# Altium schematic symbol library LinhKienByTrun.SchLib: 123 symbols
Pins are listed as number, name and electrical type; pins without a type are passive.

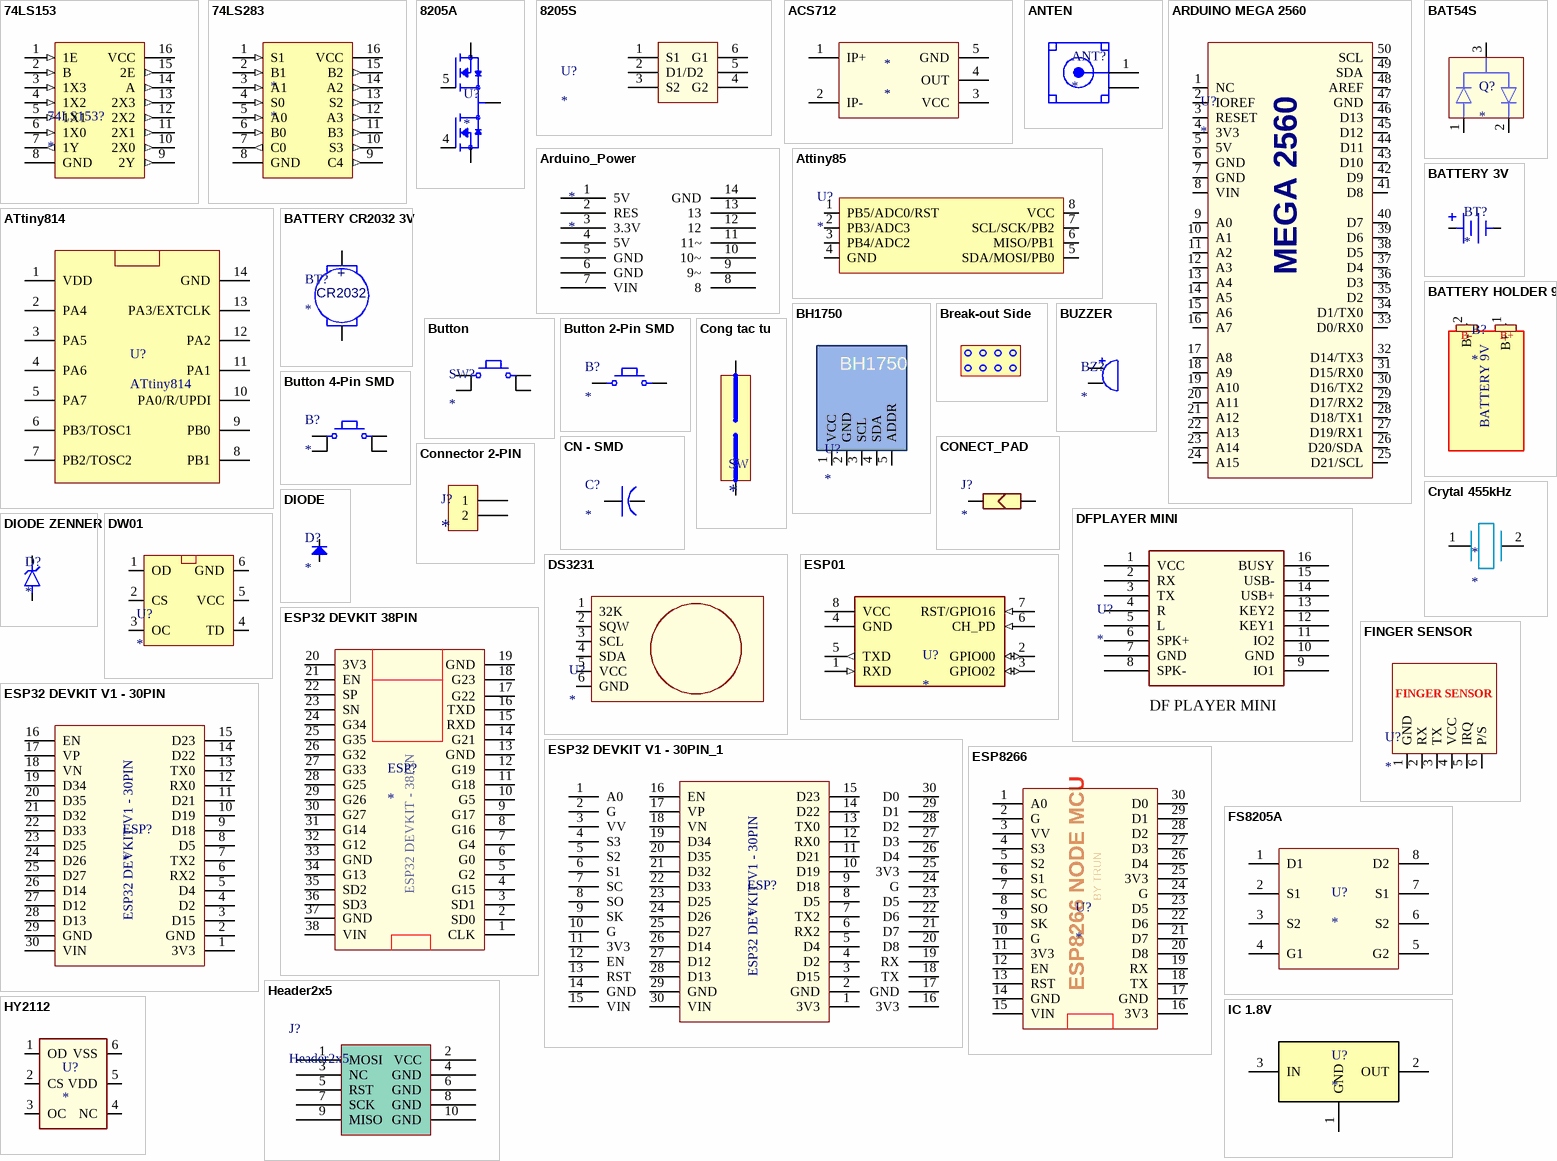
[diagram p0: symbols 74LS153 to IC 1.8V]

## 74LS153
designator 74LS153?
footprint DIP-16
pins: 1 1E (in), 2 B (in), 3 1X3 (in), 4 1X2 (in), 5 1X1 (in), 6 1X0 (in), 7 1Y (out), 8 GND (power), 9 2Y (out), 10 2X0 (out), 11 2X1 (out), 12 2X2 (out), 13 2X3 (out), 14 A (out), 15 2E (out), 16 VCC (power)

## 74LS283
designator *
footprint DIP-16
pins: 1 S1 (in), 2 B1 (in), 3 A1 (in), 4 S0 (in), 5 A0 (in), 6 B0 (in), 7 C0 (out), 8 GND (power), 9 C4 (out), 10 S3 (out), 11 B3 (out), 12 A3 (out), 13 S2 (out), 14 A2 (out), 15 B2 (out), 16 VCC (power)

## 8205A
designator U?
footprint 8205A
pins: 1 D12, 2 S1, 3 S1, 4 G1, 5 G2, 6 S2, 7 S2, 8 D12

## 8205S
designator U?
footprint SOP23-6
pins: 1 S1, 2 D1/D2, 3 S2, 4 G2, 5, 6 G1

## ACS712
designator *
footprint ACS712
pins: 1 IP+, 2 IP-, 3 VCC, 4 OUT, 5 GND

## ANTEN
designator ANT?
footprint ANTEN SMA FEMALE
footprint ANTEN
footprint ANTEN SMA FEMALE RIGHT
footprint ANTEN GSM
pins: 1 SIGNAL, 2 GND (power)

## ARDUINO MEGA 2560
designator U?
dauthanhtrung.kma@gmail.com
pins: 1 NC, 2 IOREF, 3 RESET, 4 3V3, 5 5V, 6 GND, 7 GND, 8 VIN, 9 A0, 10 A1, 11 A2, 12 A3, 13 A4, 14 A5, 15 A6, 16 A7, 17 A8, 18 A9, 19 A10, 20 A11, 21 A12, 22 A13, 23 A14, 24 A15, 25 D21/SCL, 26 D20/SDA, 27 D19/RX1, 28 D18/TX1, 29 D17/RX2, 30 D16/TX2, 31 D15/RX0, 32 D14/TX3, 33 D0/RX0, 34 D1/TX0, 35 D2, 36 D3, 37 D4, 38 D5, 39 D6, 40 D7, 41 D8, 42 D9, 43 D10, 44 D11, 45 D12, 46 D13, 47 GND, 48 AREF, 49 SDA, 50 SCL
text: MEGA 2560

## Arduino_Power
designator *
pins: 1 5V, 2 RES, 3 3.3V, 4 5V, 5 GND, 6 GND, 7 VIN, 8, 9 9~, 10 10~, 11 11~, 12, 13, 14 GND

## Attiny85
designator U?
footprint DIP8 SOCKET
footprint DIP8
pins: 1 PB5/ADC0/RST, 2 PB3/ADC3, 3 PB4/ADC2, 4 GND, 5 SDA/MOSI/PB0, 6 MISO/PB1, 7 SCL/SCK/PB2, 8 VCC

## ATtiny814
designator U?
footprint SOP14
pins: 1 VDD (power), 2 PA4, 3 PA5, 4 PA6, 5 PA7, 6 PB3/TOSC1, 7 PB2/TOSC2, 8 PB1, 9 PB0, 10 PA0/R/UPDI, 11 PA1, 12 PA2, 13 PA3/EXTCLK, 14 GND (power)

## BAT54S
designator Q?
BAT54S
footprint SOT23-3
pins: 1, 2, 3

## BATTERY 3V
designator BT?
footprint CR1220
pins: N NEG, P POS

## BATTERY CR2032 3V
designator BT?
footprint BATTERY CR2032 3V
footprint BATTERY CR2032 3V BS-8
pins: 1, 2
text: +; CR2032

## BATTERY HOLDER 9V
designator B?
footprint BATTERY HOLDER 9V
pins: 1 B+, 2 B-
text: BATTERY 9V

## BH1750
designator U?
footprint BH1750
pins: 1 VCC, 2 GND, 3 SCL, 4 SDA, 5 ADDR

## Break-out Side
designator BR  (value not drawn)
footprint Break-out Side

## Button
designator SW?
footprint BUTTON 12X12X7.3mm
footprint BUTTON 12X12X7.3mm - BLUE
footprint BUTTON 12X12X7.3mm - RED
footprint BUTTON 12X12X7.3mm - YELLOW
pins: 1, 2, 3, 4

## Button 2-Pin SMD
designator B?
footprint BUTTON 3x6x2.5mm 2-Pin SMD
pins: 1, 2

## Button 4-Pin SMD
designator B?
footprint BUTTON 4x4x1.7MM 4-Pin SMD Copper
footprint BUTTON 6x6x5mm 4-Pin SMD
footprint BUTTON-2in1
pins: 1, 2, 3, 4

## BUZZER
designator BZ?
footprint BUZZER  5V 12x9.5mm
footprint BUZZER 3V 9x5.5mm
pins: 1, 2
text: +

## CN - SMD
designator C?
footprint CN TANTALUM 1206
footprint CN TANTALUM 0805
footprint CN TANTALUM 2917
pins: 1 A, 2 K

## CONECT_PAD
designator J?
footprint CONECT_PAD
pins: 1, 2

## Cong tac tu
designator SW
Công tắc từ 20mm
footprint Cong tac tu
pins: 1, 2

## Connector 2-PIN
designator J?
footprint CONNECTOR 2-PIN
pins: 1, 2

## Crytal 455kHz
designator *
footprint Crytal 455kHz
pins: 1, 2

## DFPLAYER MINI
designator U?
dauthanhtrung.kma@gmail.com
footprint DFPLAYER MINI
pins: 1 VCC, 2 RX, 3 TX, 4 R, 5 L, 6 SPK+, 7 GND, 8 SPK-, 9 IO1, 10 GND, 11 IO2, 12 KEY1, 13 KEY2, 14 USB+, 15 USB-, 16 BUSY
text: DF PLAYER MINI

## DIODE
designator D?
footprint DO-214AB
footprint DIODE 1206
pins: A, C

## DIODE ZENNER
designator D?
footprint DO-214AB
footprint SOD-123FL
footprint DO-214AC SMA
pins: A, C

## DS3231
designator U?
DS1307
footprint DS3231
pins: 1 32K, 2 SQW, 3 SCL, 4 SDA, 5 VCC, 6 GND

## DW01
designator U?
Lithium Protection DW01
footprint SOT23-6
pins: 1 OD, 2 CS, 3 OC, 4 TD, 5 VCC, 6 GND

## ESP01
designator U?
dauthanhtrung.kma@gmail.com
footprint ESP01
pins: 1 RXD (in), 2 GPIO00 (io), 3 GPIO02 (io), 4 GND (power), 5 TXD (out), 6 CH_PD (in), 7 RST/GPIO16 (in), 8 VCC (power)

## ESP32 DEVKIT 38PIN
designator ESP?
dauthanhtrung.kma@gmail.com
footprint ESP32 DEVKIT V1 30 PIN
pins: 1 CLK, 2 SD0, 3 SD1, 4 G15, 5 G2, 6 G0, 7 G4, 8 G16, 9 G17, 10 G5, 11 G18, 12 G19, 13 GND, 14 G21, 15 RXD, 16 TXD, 17 G22, 18 G23, 19 GND, 20 3V3, 21 EN, 22 SP, 23 SN, 24 G34, 25 G35, 26 G32, 27 G33, 28 G25, 29 G26, 30 G27, 31 G14, 32 G12, 33 GND, 34 G13, 35 SD2, 36 SD3, 37 GND, 38 VIN
text: ESP32 DEVKIT - 38PIN

## ESP32 DEVKIT V1 - 30PIN
designator ESP?
dauthanhtrung.kma@gmail.com
footprint ESP32 DEVKIT V1 30 PIN
pins: 1 3V3, 2 GND, 3 D15, 4 D2, 5 D4, 6 RX2, 7 TX2, 8 D5, 9 D18, 10 D19, 11 D21, 12 RX0, 13 TX0, 14 D22, 15 D23, 16 EN, 17 VP, 18 VN, 19 D34, 20 D35, 21 D32, 22 D33, 23 D25, 24 D26, 25 D27, 26 D14, 27 D12, 28 D13, 29 GND, 30 VIN

## ESP32 DEVKIT V1 - 30PIN_1
designator ESP?
dauthanhtrung.kma@gmail.com
footprint ESP32 DEVKIT V1 30 PIN
pins: 1 3V3, 1 A0, 2 GND, 2 G, 3 D15, 3 VV, 4 D2, 4 S3, 5 D4, 5 S2, 6 RX2, 6 S1, 7 TX2, 7 SC, 8 D5, 8 SO, 9 D18, 9 SK, 10 D19, 10 G, 11 D21, 11 3V3, 12 RX0, 12 EN, 13 TX0, 13 RST, 14 D22, 14 GND, 15 D23, 15 VIN, 16 EN, 16 3V3, 17 VP, 17 GND, 18 VN, 18 TX, 19 D34, 19 RX, 20 D35, 20 D8, 21 D32, 21 D7, 22 D33, 22 D6, 23 D25, 23 D5, 24 D26, 24 G, 25 D27, 25 3V3, 26 D14, 26 D4, 27 D12, 27 D3, 28 D13, 28 D2, 29 GND, 29 D1, 30 VIN, 30 D0
text: ESP32 DEVKIT V1 - 30PIN

## ESP8266
designator U?
dauthanhtrung.kma@gmail.com
footprint ESP8266 BY TRUN
footprint ESP8266 NODE MCU MINI
pins: 1 A0, 2 G, 3 VV, 4 S3, 5 S2, 6 S1, 7 SC, 8 SO, 9 SK, 10 G, 11 3V3, 12 EN, 13 RST, 14 GND, 15 VIN, 16 3V3, 17 GND, 18 TX, 19 RX, 20 D8, 21 D7, 22 D6, 23 D5, 24 G, 25 3V3, 26 D4, 27 D3, 28 D2, 29 D1, 30 D0
text: BY TRUN; ESP8266 NODE MCU

## FINGER SENSOR
designator U?
dauthanhtrung.kma@gmail.com
footprint FINGER SENSOR
pins: 1 GND, 2 RX, 3 TX, 4 VCC, 5 IRQ, 6 P/S

## FS8205A
designator U?
footprint 8205A
pins: 1 D1, 2 S1, 3 S2, 4 G1, 5 G2, 6 S2, 7 S1, 8 D2

## Header2x5
designator J?
footprint Header2x5
pins: 1 MOSI, 2 VCC, 3 NC, 4 GND, 5 RST, 6 GND, 7 SCK, 8 GND, 9 MISO, 10 GND

## HY2112
designator U?
footprint SOP23-6
pins: 1 OD, 2 CS, 3 OC, 4 NC, 5 VDD, 6 VSS

## IC 1.8V
designator U?
footprint SOT23-3
pins: 1 GND, 2 OUT, 3 IN (power)

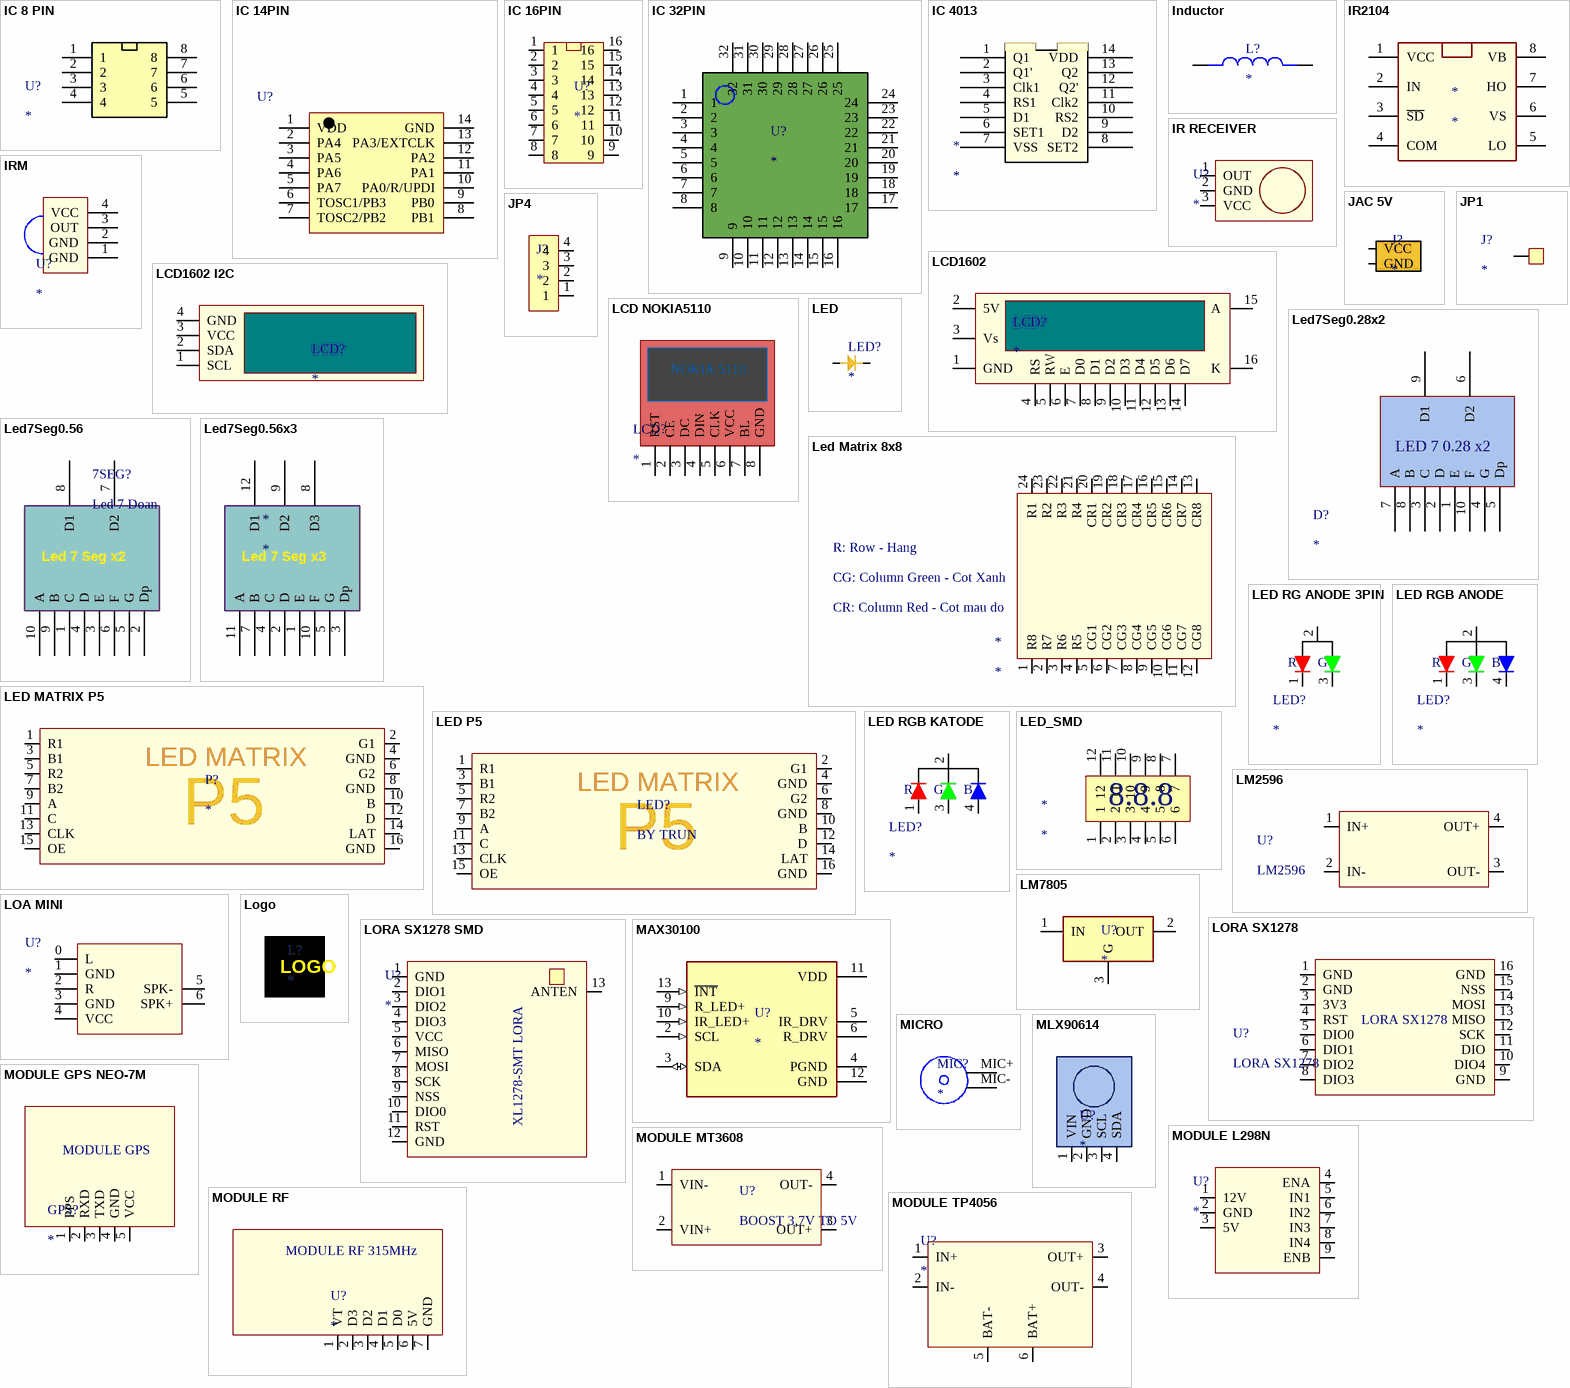
[diagram p1: symbols IC 8 PIN to MODULE TP4056]

## IC 8 PIN
designator U?
footprint SOP8
footprint DIP8
footprint SOP23-8
pins: 1, 2, 3, 4, 5, 6, 7, 8

## IC 14PIN
designator U?
footprint SOP14
pins: 1 VDD (power), 2 PA4, 3 PA5, 4 PA6, 5 PA7, 6 TOSC1/PB3, 7 TOSC2/PB2, 8 PB1, 9 PB0, 10 PA0/R/UPDI, 11 PA1, 12 PA2, 13 PA3/EXTCLK, 14 GND (power)
text: .

## IC 16PIN
designator U?
pins: 1, 2, 3, 4, 5, 6, 7, 8, 9, 10, 11, 12, 13, 14, 15, 16

## IC 32PIN
designator U?
pins: 1, 2, 3, 4, 5, 6, 7, 8, 9, 10, 11, 12, 13, 14, 15, 16, 17, 18, 19, 20, 21, 22, 23, 24, 25, 26, 27, 28, 29, 30, 31, 32

## IC 4013
designator *
footprint IC-14_SMD
pins: 1 Q1, 2 Q1', 3 Clk1, 4 RS1, 5 D1, 6 SET1, 7 VSS, 8 SET2, 9 D2, 10 RS2, 11 Clk2, 12 Q2', 13 Q2, 14 VDD

## Inductor
designator L?
footprint INDUCTOR
footprint INDUCTOR 6060
pins: 1, 2

## IR2104
designator *
footprint DIP8
pins: 1 VCC (power), 2 IN, 3 ~{SD}, 4 COM, 5 LO, 6 VS (power), 7 HO, 8 VB (power)

## IR RECEIVER
designator U?
pins: 1 OUT, 2 GND, 3 VCC

## IRM
designator U?
footprint IRM2
pins: 1 GND, 2 GND, 3 OUT, 4 VCC

## JAC 5V
designator J?
footprint JP2
footprint JP3
pins: 0 VCC, 1 GND

## JP1
designator J?
footprint JP1
footprint JP1-SMD
footprint Pad_2 Layer
pins: 1

## JP4
designator J?
footprint JP4
pins: 1, 2, 3, 4

## LCD1602
designator LCD?
dauthanhtrung.kma@gmail.com
footprint LCD16X2
pins: 1 GND, 2 5V, 3 Vs, 4 RS, 5 RW, 6 E, 7 D0, 8 D1, 9 D2, 10 D3, 11 D4, 12 D5, 13 D6, 14 D7, 15 A, 16 K
2 alternate drawings of the same symbol

## LCD1602 I2C
designator LCD?
dauthanhtrung.kma@gmail.com
footprint LCD1602 I2C
footprint LCD1602 I2C JUMP
footprint LCD2004 I2C
pins: 1 SCL, 2 SDA, 3 VCC, 4 GND

## LCD NOKIA5110
designator LCD?
dauthanhtrung.kma@gmail.com
footprint LCD NOKIA 5110
pins: 1 RST, 2 CE, 3 DC, 4 DIN, 5 CLK, 6 VCC, 7 BL, 8 GND
text: NOKIA 5110

## LED
designator LED?
footprint LED 5mm
footprint LED 3030
footprint LED LUXEON 1206
pins: A, K

## Led7Seg0.28x2
designator D?
footprint 7SEG-SMD0.28x2
pins: 1 E, 2 D, 3 C, 4 G, 5 Dp, 6 D2, 7 A, 8 B, 9 D1, 10 F
text: LED 7 0.28 x2

## Led7Seg0.56
designator 7SEG?, comment Led 7 Doan
footprint 7Seg-SMD
footprint 7SEG
pins: 1 C, 2 Dp, 3 E, 4 D, 5 G, 6 F, 7 D2, 8 D1, 9 B, 10 A
text: Led 7 Seg x2

## Led7Seg0.56x3
designator *
footprint 7Segx3
pins: 1 E, 2 D, 3 Dp, 4 C, 5 G, 7 B, 8 D3, 9 D2, 10 F, 11 A, 12 D1
text: Led 7 Seg x3

## Led Matrix 8x8
designator *
pins: 1 R8, 2 R7, 3 R6, 4 R5, 5 CG1, 6 CG2, 7 CG3, 8 CG4, 9 CG5, 10 CG6, 11 CG7, 12 CG8, 13 CR8, 14 CR7, 15 CR6, 16 CR5, 17 CR4, 18 CR3, 19 CR2, 20 CR1, 21 R4, 22 R3, 23 R2, 24 R1
text: R: Row - Hang; CG: Column Green - Cot Xanh; CR: Column Red - Cot mau do

## LED MATRIX P5
designator P?
footprint LED MATRIX P5
pins: 1 R1, 2 G1, 3 B1, 4 GND, 5 R2, 6 G2, 7 B2, 8 GND, 9 A, 10 B, 11 C, 12 D, 13 CLK, 14 LAT, 15 OE, 16 GND
text: LED MATRIX; P5

## LED P5
designator LED?, comment BY TRUN
dauthanhtrung.kma@gmail.com
footprint LED MATRIX P5
pins: 1 R1, 2 G1, 3 B1, 4 GND, 5 R2, 6 G2, 7 B2, 8 GND, 9 A, 10 B, 11 C, 12 D, 13 CLK, 14 LAT, 15 OE, 16 GND
text: LED MATRIX; P5

## LED RG ANODE 3PIN
designator LED?
footprint LED 3MM RG
pins: 1 RED, 2 COM, 3 GREEN
text: R; G

## LED RGB ANODE
designator LED?
footprint LED 10MM RGB
pins: 1 RED, 2 COM, 3 GREEN, 4 BLUE
text: R; G; B

## LED RGB KATODE
designator LED?
footprint LED 10MM RGB
pins: 1 RED, 2 COM, 3 GREEN, 4 BLUE
text: R; G; B

## LED_SMD
designator *
pins: 1, 2, 3, 4, 5, 6, 7, 8, 9, 10, 11, 12
text: 8.8.8

## LM2596
designator U?
dauthanhtrung.kma@gmail.com
footprint LM2596
footprint LM2596
pins: 1 IN+, 2 IN-, 3 OUT-, 4 OUT+

## LM7805
designator U?
footprint LM7805 TO252
pins: 1 IN, 2 OUT, 3 G (power)

## LOA MINI
designator U?
footprint LOA MINI
pins: 0 L, 1 GND, 2 R, 3 GND, 4 VCC, 5 SPK-, 6 SPK+

## Logo
designator L?
footprint Logo
footprint LOGO_MATMA
footprint LOGO-WOFT
footprint LOGO_MATMA2
footprint LOGO_VIETNAM
footprint LOGO_BATMAN
footprint LOGO_MATMA_BOTTOM
pins: logo
text: LOGO

## LORA SX1278
designator U?
footprint LORA SX1278
pins: 1 GND, 2 GND, 3 3V3, 4 RST, 5 DIO0, 6 DIO1, 7 DIO2, 8 DIO3, 9 GND, 10 DIO4, 11 DIO, 12 SCK, 13 MISO, 14 MOSI, 15 NSS, 16 GND

## LORA SX1278 SMD
designator U?
footprint LORA SX1278 SMD
pins: 1 GND, 2 DIO1, 3 DIO2, 4 DIO3, 5 VCC, 6 MISO, 7 MOSI, 8 SCK, 9 NSS, 10 DIO0, 11 RST, 12 GND, 13 ANTEN
text: XL1278-SMT LORA

## MAX30100
designator U?
footprint MAX30100
pins: 2 SCL (in), 3 SDA (io), 4 PGND, 5 IR_DRV, 6 R_DRV, 9 R_LED+ (in), 10 IR_LED+ (in), 11 VDD (power), 12 GND, 13 ~{INT} (in)

## MICRO
designator MIC?
footprint MICRO 6mm
pins: MIC+, MIC-

## MLX90614
designator U?
footprint MLX90614
pins: 1 VIN, 2 GND, 3 SCL, 4 SDA

## MODULE GPS NEO-7M
designator GPS?
footprint MODULE GPS NEO-7M
pins: 1 PPS, 2 RXD, 3 TXD, 4 GND, 5 VCC
text: MODULE GPS

## MODULE L298N
designator U?
footprint MODULE L298N
pins: 1 12V, 2 GND, 3 5V, 4 ENA, 5 IN1, 6 IN2, 7 IN3, 8 IN4, 9 ENB

## MODULE MT3608
designator U?, comment BOOST 3,7V TO 5V
dauthanhtrung.kma@gmail.com
footprint MT3608 MODULE
pins: 1 VIN-, 2 VIN+, 3 OUT+, 4 OUT-

## MODULE RF
designator U?
dauthanhtrung.kma@gmail.com
footprint MODULE RF
pins: 1 VT, 2 D3, 3 D2, 4 D1, 5 D0, 6 5V, 7 GND
text: MODULE RF 315MHz

## MODULE TP4056
designator U?
dauthanhtrung.kma@gmail.com
footprint TP4056 MODULE
footprint Module SAC+TANG AP
pins: 1 IN+, 2 IN-, 3 OUT+, 4 OUT-, 5 BAT-, 6 BAT+

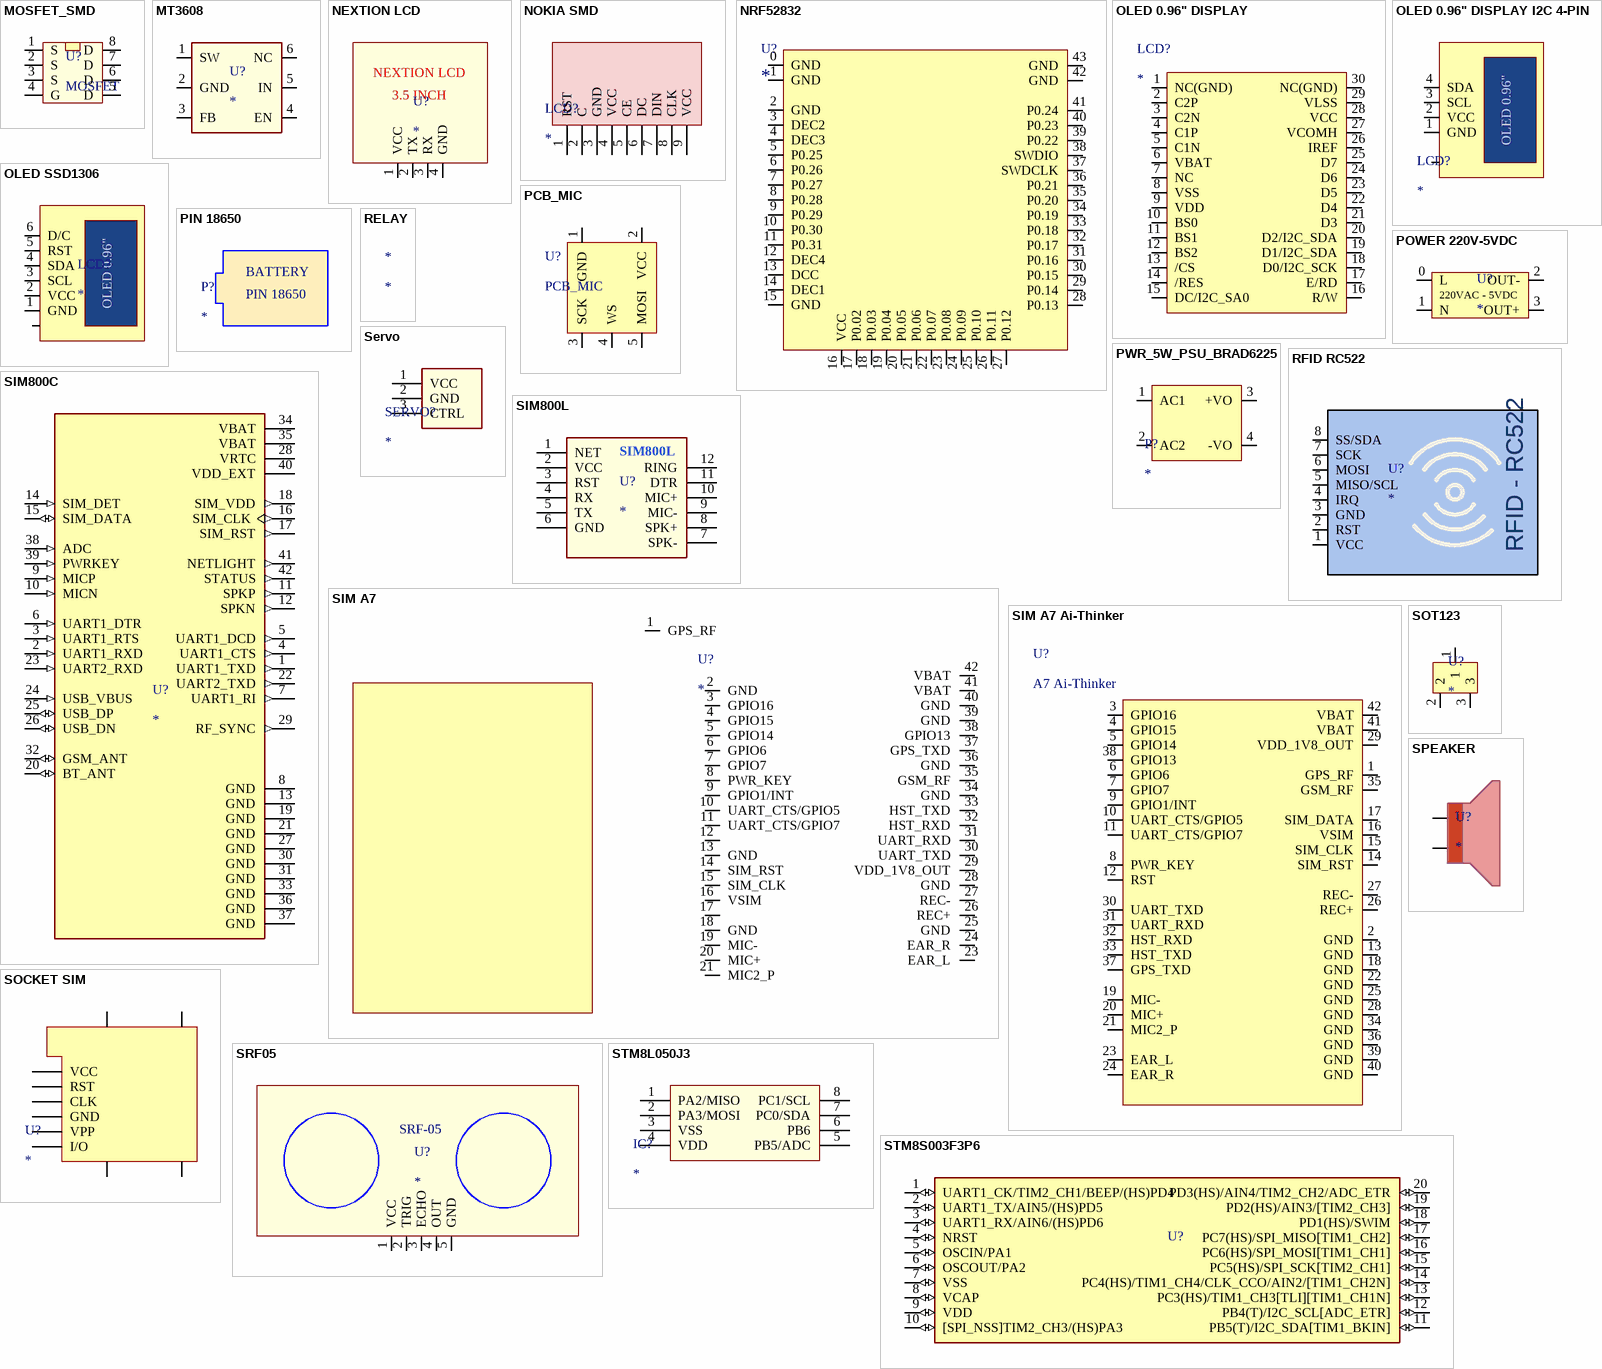
[diagram p2: symbols MOSFET_SMD to STM8S003F3P6]

## MOSFET_SMD
designator U?, comment MOSFET
footprint SOP8
pins: 1 S, 2 S, 3 S, 4 G, 5 D, 6 D, 7 D, 8 D

## MT3608
designator U?
MF: Aerosemi Technology Co., Ltd; MP: MT3608; Package: Package Analog Devices; Availability: Unavailable; Value: *; SnapEDA_Link: https://www.snapeda.com/parts/MT3608/Aerosemi%20Technology%20Co.%2C%20Ltd/view-part/3218014/?ref=snap; Price: None
footprint MT3608
pins: 1 SW, 2 GND, 3 FB, 4 EN, 5 IN, 6 NC

## NEXTION LCD
designator U?
dauthanhtrung.kma@gmail.com
footprint NEXTION LCD
footprint JP4H
pins: 1 VCC, 2 TX, 3 RX, 4 GND
text: 3.5 INCH

## NOKIA SMD
designator LCD?
dauthanhtrung.kma@gmail.com
footprint LCD NOKIA SMD - duplicate
pins: 1 RST, 2 C, 3 GND, 4 VCC, 5 CE, 6 DC, 7 DIN, 8 CLK, 9 VCC

## NRF52832
designator U?
footprint NRF52832
pins: 0 GND, 1 GND, 2 GND, 3 DEC2, 4 DEC3, 5 P0.25, 6 P0.26, 7 P0.27, 8 P0.28, 9 P0.29, 10 P0.30, 11 P0.31, 12 DEC4, 13 DCC, 14 DEC1, 15 GND, 16 VCC, 17 P0.02, 18 P0.03, 19 P0.04, 20 P0.05, 21 P0.06, 22 P0.07, 23 P0.08, 24 P0.09, 25 P0.10, 26 P0.11, 27 P0.12, 28 P0.13, 29 P0.14, 30 P0.15, 31 P0.16, 32 P0.17, 33 P0.18, 34 P0.19, 35 P0.20, 36 P0.21, 37 SWDCLK, 38 SWDIO, 39 P0.22, 40 P0.23, 41 P0.24, 42 GND, 43 GND

## OLED 0.96" DISPLAY
designator LCD?
footprint OLED 0.96" SSD1306 Display
pins: 1 NC(GND), 2 C2P, 3 C2N, 4 C1P, 5 C1N, 6 VBAT, 7 NC, 8 VSS, 9 VDD, 10 BS0, 11 BS1, 12 BS2, 13 /CS, 14 /RES, 15 DC/I2C_SA0, 16 R/W, 17 E/RD, 18 D0/I2C_SCK, 19 D1/I2C_SDA, 20 D2/I2C_SDA, 21 D3, 22 D4, 23 D5, 24 D6, 25 D7, 26 IREF, 27 VCOMH, 28 VCC, 29 VLSS, 30 NC(GND)

## OLED 0.96" DISPLAY I2C 4-PIN
designator LCD?
footprint OLED 0.96" SSD1306 I2C 4-PIN
pins: 0 HOLE, 1 GND, 2 VCC, 3 SCL, 4 SDA
text: OLED 0.96"

## OLED SSD1306
designator LCD?
footprint OLED 0.96" SSD1306
pins: 0 HOLE, 1 GND, 2 VCC, 3 SCL, 4 SDA, 5 RST, 6 D/C
text: OLED 0.96"

## PCB_MIC
designator U?
footprint PCB_MIC
pins: 1 GND, 2 VCC, 3 SCK, 4 WS, 5 MOSI

## PIN 18650
designator P?
dauthanhtrung.kma@gmail.com
footprint PIN 18650
footprint DE PIN 18650
footprint DE PIN 18650  2PIN
text: BATTERY

## POWER 220V-5VDC
designator U?
dauthanhtrung.kma@gmail.com
footprint POWER 220V-5VDC
pins: 0 L, 1 N, 2 OUT-, 3 OUT+
text: 220VAC - 5VDC

## PWR_5W_PSU_BRAD6225
designator P?
Module nguon 5W
footprint PWR_5W_PSU_BRAD6225
pins: 1 AC1, 2 AC2, 3 +VO, 4 -VO

## RELAY
designator *

## RFID RC522
designator U?
dauthanhtrung.kma@gmail.com
footprint RFID
footprint RFID - JUMP
pins: 1 VCC, 2 RST, 3 GND, 4 IRQ, 5 MISO/SCL, 6 MOSI, 7 SCK, 8 SS/SDA
text: RFID - RC522

## Servo
designator SERVO?
footprint SERVO
pins: 1 VCC "1", 2 GND "2", 3 CTRL "3"

## SIM800C
designator U?
dauthanhtrung.kma@gmail.com
footprint SIM800C
pins: 1 UART1_TXD (out), 2 UART1_RXD (in), 3 UART1_RTS (in), 4 UART1_CTS (out), 5 UART1_DCD (out), 6 UART1_DTR (in), 7 UART1_RI (out), 8 GND (power), 9 MICP (in), 10 MICN (in), 11 SPKP (out), 12 SPKN (out), 13 GND (power), 14 SIM_DET (in), 15 SIM_DATA (io), 16 SIM_CLK (out), 17 SIM_RST (out), 18 SIM_VDD (out), 19 GND (power), 20 BT_ANT (io), 21 GND (power), 22 UART2_TXD (out), 23 UART2_RXD (in), 24 USB_VBUS (in), 25 USB_DP (io), 26 USB_DN (io), 27 GND (power), 28 VRTC, 29 RF_SYNC (out), 30 GND (power), 31 GND (power), 32 GSM_ANT (io), 33 GND (power), 34 VBAT, 35 VBAT, 36 GND (power), 37 GND (power), 38 ADC (in), 39 PWRKEY (in), 40 VDD_EXT, 41 NETLIGHT (out), 42 STATUS (out)

## SIM800L
designator U?
dauthanhtrung.kma@gmail.com
footprint SIM
pins: 1 NET, 2 VCC, 3 RST, 4 RX, 5 TX, 6 GND, 7 SPK-, 8 SPK+, 9 MIC-, 10 MIC+, 11 DTR, 12 RING

## SIM A7
designator U?
footprint SIM A7 Ai-Thinker
pins: 1 GPS_RF, 2 GND, 3 GPIO16, 4 GPIO15, 5 GPIO14, 6 GPIO6, 7 GPIO7, 8 PWR_KEY, 9 GPIO1/INT, 10 UART_CTS/GPIO5, 11 UART_CTS/GPIO7, 12 RST, 13 GND, 14 SIM_RST, 15 SIM_CLK, 16 VSIM, 17 SIM_DATA, 18 GND, 19 MIC-, 20 MIC+, 21 MIC2_P, 23 EAR_L, 24 EAR_R, 25 GND, 26 REC+, 27 REC-, 28 GND, 29 VDD_1V8_OUT, 30 UART_TXD, 31 UART_RXD, 32 HST_RXD, 33 HST_TXD, 34 GND, 35 GSM_RF, 36 GND, 37 GPS_TXD, 38 GPIO13, 39 GND, 40 GND, 41 VBAT, 42 VBAT

## SIM A7 Ai-Thinker
designator U?, comment A7 Ai-Thinker
Moulde SIM A7 +GPRS+GPS+GSM
footprint SIM A7 Ai-Thinker
pins: 1 GPS_RF, 2 GND, 3 GPIO16, 4 GPIO15, 5 GPIO14, 6 GPIO6, 7 GPIO7, 8 PWR_KEY, 9 GPIO1/INT, 10 UART_CTS/GPIO5, 11 UART_CTS/GPIO7, 12 RST, 13 GND, 14 SIM_RST, 15 SIM_CLK, 16 VSIM, 17 SIM_DATA, 18 GND, 19 MIC-, 20 MIC+, 21 MIC2_P, 22 GND, 23 EAR_L, 24 EAR_R, 25 GND, 26 REC+, 27 REC-, 28 GND, 29 VDD_1V8_OUT, 30 UART_TXD, 31 UART_RXD, 32 HST_RXD, 33 HST_TXD, 34 GND, 35 GSM_RF, 36 GND, 37 GPS_TXD, 38 GPIO13, 39 GND, 40 GND, 41 VBAT, 42 VBAT

## SOCKET SIM
designator U?
dauthanhtrung.kma@gmail.com
footprint SOCKET SIM 6P
footprint SOCKET SIM 6P Pro
footprint SOCKET SIM 6P Maki
pins: C1 VCC, C2 RST, C3 CLK, C5 GND, C6 VPP, C7 I/O, GND, GND, GND, GND

## SOT123
designator U?
pins: 1, 2, 3

## SPEAKER
designator U?
footprint SPEAKER SMD
pins: 0 SPK+, 1 SPK-

## SRF05
designator U?
footprint SRF05
pins: 1 VCC, 2 TRIG, 3 ECHO, 4 OUT, 5 GND
text: SRF-05

## STM8L050J3
designator IC?
footprint SOP8
pins: 1 PA2/MISO, 2 PA3/MOSI, 3 VSS, 4 VDD, 5 PB5/ADC, 6 PB6, 7 PC0/SDA, 8 PC1/SCL

## STM8S003F3P6
designator U?, comment BY TRUN  (value not drawn)
footprint SOT20
footprint SOT20 TO DIP20
pins: 1 UART1_CK/TIM2_CH1/BEEP/(HS)PD4 (io), 2 UART1_TX/AIN5/(HS)PD5 (io), 3 UART1_RX/AIN6/(HS)PD6 (io), 4 NRST (io), 5 OSCIN/PA1 (io), 6 OSCOUT/PA2 (io), 7 VSS (io), 8 VCAP (io), 9 VDD (io), 10 [SPI_NSS]TIM2_CH3/(HS)PA3 (io), 11 PB5(T)/I2C_SDA[TIM1_BKIN] (io), 12 PB4(T)/I2C_SCL[ADC_ETR] (io), 13 PC3(HS)/TIM1_CH3[TLI][TIM1_CH1N] (io), 14 PC4(HS)/TIM1_CH4/CLK_CCO/AIN2/[TIM1_CH2N] (io), 15 PC5(HS)/SPI_SCK[TIM2_CH1] (io), 16 PC6(HS)/SPI_MOSI[TIM1_CH1] (io), 17 PC7(HS)/SPI_MISO[TIM1_CH2] (io), 18 PD1(HS)/SWIM (io), 19 PD2(HS)/AIN3/[TIM2_CH3] (io), 20 PD3(HS)/AIN4/TIM2_CH2/ADC_ETR (io)

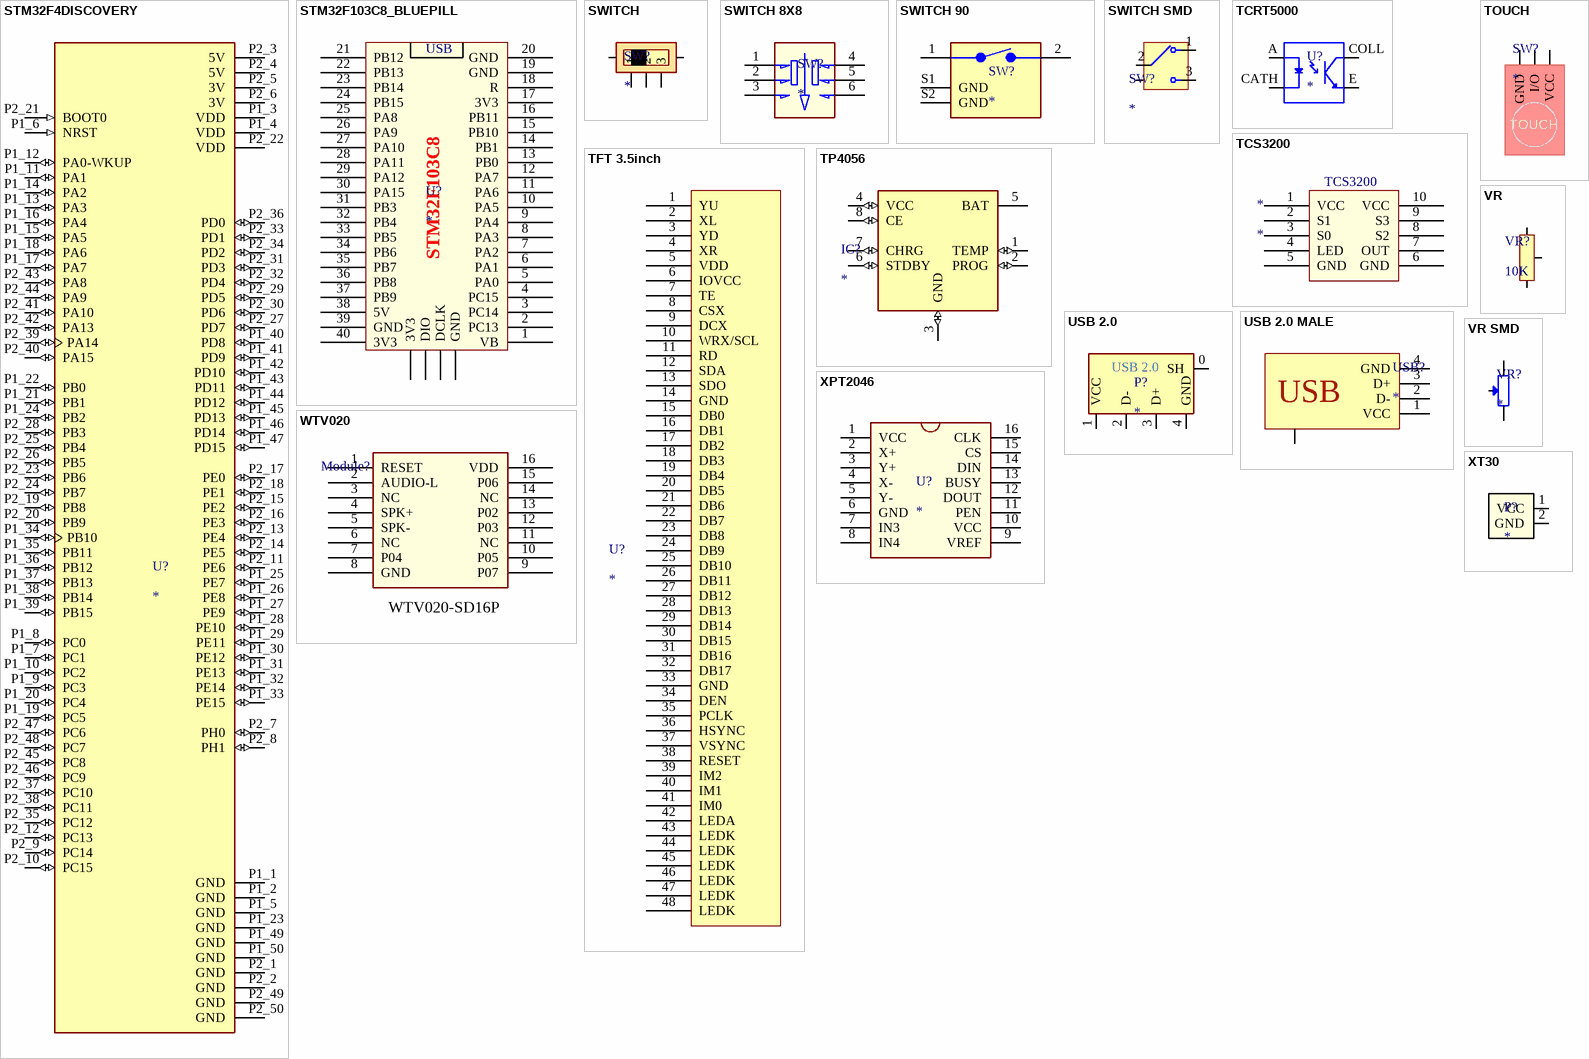
[diagram p3: symbols STM32F4DISCOVERY to XT30]

## STM32F4DISCOVERY
designator U?
dauthanhtrung.kma@gmail.com
footprint STM32F4DISCOVERY
pins: P1_1 GND (power), P1_2 GND (power), P1_3 VDD (power), P1_4 VDD (power), P1_5 GND (power), P1_6 NRST (in), P1_7 PC1 (io), P1_8 PC0 (io), P1_9 PC3 (io), P1_10 PC2 (io), P1_11 PA1 (io), P1_12 PA0-WKUP (io), P1_13 PA3 (io), P1_14 PA2 (io), P1_15 PA5 (io), P1_16 PA4 (io), P1_17 PA7 (io), P1_18 PA6 (io), P1_19 PC5 (io), P1_20 PC4 (io), P1_21 PB1 (io), P1_22 PB0 (io), P1_23 GND (power), P1_24 PB2 (io), P1_25 PE7 (io), P1_26 PE8 (io), P1_27 PE9 (io), P1_28 PE10 (io), P1_29 PE11 (io), P1_30 PE12 (io), P1_31 PE13 (io), P1_32 PE14 (io), P1_33 PE15 (io), P1_34 PB10 (io), P1_35 PB11 (io), P1_36 PB12 (io), P1_37 PB13 (io), P1_38 PB14 (io), P1_39 PB15 (io), P1_40 PD8 (io), P1_41 PD9 (io), P1_42 PD10 (io), P1_43 PD11 (io), P1_44 PD12 (io), P1_45 PD13 (io), P1_46 PD14 (io), P1_47 PD15 (io), P1_49 GND (power), P1_50 GND (power), P2_1 GND (power), P2_2 GND (power), P2_3 5V (power), P2_4 5V (power), P2_5 3V (power), P2_6 3V (power), P2_7 PH0 (io), P2_8 PH1 (io), P2_9 PC14 (io), P2_10 PC15 (io), P2_11 PE6 (io), P2_12 PC13 (io), P2_13 PE4 (io), P2_14 PE5 (io), P2_15 PE2 (io), P2_16 PE3 (io), P2_17 PE0 (io), P2_18 PE1 (io), P2_19 PB8 (io), P2_20 PB9 (io), P2_21 BOOT0 (in), P2_22 VDD (power), P2_23 PB6 (io), P2_24 PB7 (io), P2_25 PB4 (io), P2_26 PB5 (io), P2_27 PD7 (io), P2_28 PB3 (io), P2_29 PD5 (io), P2_30 PD6 (io), P2_31 PD3 (io), P2_32 PD4 (io), P2_33 PD1 (io), P2_34 PD2 (io), P2_35 PC12 (io), P2_36 PD0 (io), P2_37 PC10 (io), P2_38 PC11 (io), P2_39 PA14 (io), P2_40 PA15 (io), P2_41 PA10 (io), P2_42 PA13 (io), P2_43 PA8 (io), P2_44 PA9 (io), P2_45 PC8 (io), P2_46 PC9 (io), P2_47 PC6 (io), P2_48 PC7 (io), P2_49 GND (power), P2_50 GND (power)

## STM32F103C8_BLUEPILL
designator U?
dauthanhtrung.kma@gmail.com
footprint STM32F103C8
pins: 1 VB, 2 PC13, 3 PC14, 4 PC15, 5 PA0, 6 PA1, 7 PA2, 8 PA3, 9 PA4, 10 PA5, 11 PA6, 12 PA7, 13 PB0, 14 PB1, 15 PB10, 16 PB11, 17 3V3, 18 R, 19 GND, 20 GND, 21 PB12, 22 PB13, 23 PB14, 24 PB15, 25 PA8, 26 PA9, 27 PA10, 28 PA11, 29 PA12, 30 PA15, 31 PB3, 32 PB4, 33 PB5, 34 PB6, 35 PB7, 36 PB8, 37 PB9, 38 5V, 39 GND, 40 3V3, 41 3V3, 42 DIO, 43 DCLK, 44 GND
text: USB; STM32F103C8

## SWITCH
designator SW?
footprint SWITCH
pins: 0 4, 0 5, 1, 2, 3

## SWITCH 8X8
designator SW?
footprint SWITCH 8X8
pins: 1 NC1, 2 COM1, 3 NO1, 4 NC2, 5 COM2, 6 NO2

## SWITCH 90
designator SW?
Tact Switch 90 degree
footprint SWITCH 90
pins: 1, 2, S1 GND, S2 GND

## SWITCH SMD
designator SW?
footprint SW MSK-12C02 SMD
pins: 0 4, 1, 2, 3

## TCRT5000
designator U?
footprint TCRT5000
pins: A, CATH, COLL, E

## TCS3200
designator *
footprint TCS3200
pins: 1 VCC, 2 S1, 3 S0, 4 LED, 5 GND, 6 GND, 7 OUT, 8 S2, 9 S3, 10 VCC

## TFT 3.5inch
designator U?
footprint TFT 3.5inch
pins: 1 YU, 2 XL, 3 YD, 4 XR, 5 VDD, 6 IOVCC, 7 TE, 8 CSX, 9 DCX, 10 WRX/SCL, 11 RD, 12 SDA, 13 SDO, 14 GND, 15 DB0, 16 DB1, 17 DB2, 18 DB3, 19 DB4, 20 DB5, 21 DB6, 22 DB7, 23 DB8, 24 DB9, 25 DB10, 26 DB11, 27 DB12, 28 DB13, 29 DB14, 30 DB15, 31 DB16, 32 DB17, 33 GND, 34 DEN, 35 PCLK, 36 HSYNC, 37 VSYNC, 38 RESET, 39 IM2, 40 IM1, 41 IM0, 42 LEDA, 43 LEDK, 44 LEDK, 45 LEDK, 46 LEDK, 47 LEDK, 48 LEDK

## TOUCH
designator SW?
footprint TOUCH
pins: 1 GND, 2 I/O, 3 VCC

## TP4056
designator IC?
footprint SOP8-TP4056
pins: 1 TEMP (io), 2 PROG (io), 3 GND (io), 4 VCC (io), 5 BAT, 6 STDBY (io), 7 CHRG (io), 8 CE (io)

## USB 2.0
designator P?
footprint USB 2.0 VERTICAL
pins: 0 SH, 1 VCC, 2 D-, 3 D+, 4 GND

## USB 2.0 MALE
designator USB?
footprint USB 2.0 MALE SMD
footprint USB 2.0 MALE TH
pins: 1 VCC (power), 2 D-, 3 D+, 4 GND (power), S1 GND
text: USB

## VR
designator VR?, comment 10K
footprint VR-1
footprint VR-S
footprint VR
pins: 1, 2, 3

## VR SMD
designator VR?
MP: EVM3ESX50B12; MF: Panasonic; SnapEDA_Link: https://www.snapeda.com/parts/EVM3ESX50B12/Panasonic/view-part/558669/?ref=snap; Value: *; Price: None; Package: None; Availability: Unavailable
footprint VR SMD
pins: 1, 2, 3

## WTV020
designator Module?
footprint WTV020
pins: 1 RESET, 2 AUDIO-L, 3 NC, 4 SPK+, 5 SPK-, 6 NC, 7 P04, 8 GND, 9 P07, 10 P05, 11 NC, 12 P03, 13 P02, 14 NC, 15 P06, 16 VDD
text: WTV020-SD16P

## XPT2046
designator U?
footprint TSSOP16
pins: 1 VCC, 2 X+, 3 Y+, 4 X-, 5 Y-, 6 GND, 7 IN3, 8 IN4, 9 VREF, 10 VCC, 11 PEN, 12 DOUT, 13 BUSY, 14 DIN, 15 CS, 16 CLK

## XT30
designator P?
footprint XT30
pins: 1 VCC, 2 GND